# Altium integrated library ST Audio TV Stereo Decoder.IntLib: 2 symbols
Pins are listed as number, name and electrical type; pins without a type are passive.

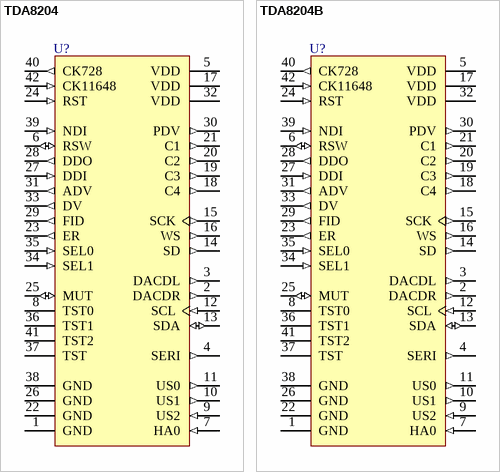
[diagram p0: symbols TDA8204 to TDA8204B]

## TDA8204
designator U?
NICAM Decoder; Published: 24-Aug-2001; LatestRevisionDate: 26-May-2004; LatestRevisionNote: PCB silkscreen length reduced.; DatasheetDocument: Oct-1993; PackageDocument: Oct-2003; PackageReference: PSDIP42; Publisher: Altium Limited
footprint PSDIP42 (DIP, Plastic Shrink; 42 Leads; Row Spacing 15.24 mm; Pitch 1.78 mm)
pins: 1 GND (power), 2 DACDR (out), 3 DACDL (out), 4 SERI (out), 5 VDD (power), 6 RSW (io), 7 HA0 (in), 8 TST0, 9 US2 (in), 10 US1 (out), 11 US0 (out), 12 SCL (in), 13 SDA (io), 14 SD (out), 15 SCK (out), 16 WS (out), 17 VDD (power), 18 C4 (out), 19 C3 (out), 20 C2 (out), 21 C1 (out), 22 GND (power), 23 ER (out), 24 RST (in), 25 MUT (io), 26 GND (power), 27 DDI (in), 28 DDO (out), 29 FID (out), 30 PDV (out), 31 ADV (out), 32 VDD (power), 33 DV (out), 34 SEL1 (in), 35 SEL0 (in), 36 TST1, 37 TST, 38 GND (power), 39 NDI (in), 40 CK728 (out), 41 TST2, 42 CK11648 (in)

## TDA8204B
designator U?
NICAM Decoder; Published: 24-Aug-2001; LatestRevisionDate: 26-May-2004; LatestRevisionNote: PCB silkscreen length reduced.; DatasheetDocument: Nov-1994; PackageDocument: Oct-2003; PackageReference: PSDIP42; Publisher: Altium Limited
footprint PSDIP42 (DIP, Plastic Shrink; 42 Leads; Row Spacing 15.24 mm; Pitch 1.78 mm)
pins: 1 GND (power), 2 DACDR (out), 3 DACDL (out), 4 SERI (out), 5 VDD (power), 6 RSW (io), 7 HA0 (in), 8 TST0, 9 US2 (in), 10 US1 (out), 11 US0 (out), 12 SCL (in), 13 SDA (io), 14 SD (out), 15 SCK (out), 16 WS (out), 17 VDD (power), 18 C4 (out), 19 C3 (out), 20 C2 (out), 21 C1 (out), 22 GND (power), 23 ER (out), 24 RST (in), 25 MUT (io), 26 GND (power), 27 DDI (in), 28 DDO (out), 29 FID (out), 30 PDV (out), 31 ADV (out), 32 VDD (power), 33 DV (out), 34 SEL1 (in), 35 SEL0 (in), 36 TST1, 37 TST, 38 GND (power), 39 NDI (in), 40 CK728 (out), 41 TST2, 42 CK11648 (in)